# Altium footprint library TPS22917DBVR.PcbLib: 3 footprints
Each footprint in its own frame and in the unit in brackets; x right, y up, seen from the top. Pads: shape width x height; smd on the part's side, far side on the other; paste and mask are expansions set on the pad; w line width, h text height; cw(c..) or ccw(c..) is an arc to the next point about the centre after c.
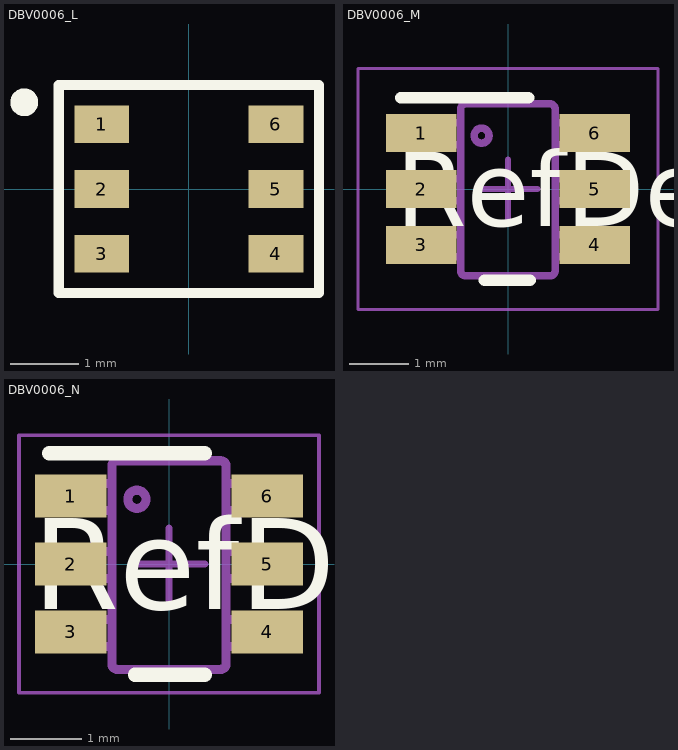
[diagram p0: the footprints below, top view; thin cyan lines are the x and y axes]

## DBV0006_L [mm]
pads (6):
  rect 0.8x0.55 smd paste+0 mask+0: 1(-1.275,0.95) 2(-1.275,0) 3(-1.275,-0.95) 4(1.275,-0.95) 5(1.275,0) 6(1.275,0.95)
Top Overlay:
  circle w0.254: c-2.413,1.27 r0.076
  lines w0.152: -1.905,-1.524 -1.905,1.524 1.905,1.524 1.905,-1.524 -1.905,-1.524
3D body "DBV0006A.stp": height 1.2, standoff 0, extent -1.4,-1.45 1.4,1.45

## DBV0006_M [mm]
pads (6):
  rect 1.2x0.65 smd paste+0 mask+0: 1(-1.475,0.95) 2(-1.475,0) 3(-1.475,-0.95) 4(1.475,-0.95) 5(1.475,0) 6(1.475,0.95)
Top Overlay:
  lines w0.2: -1.825,1.55 0.35,1.55 ; -0.4,-1.55 0.375,-1.55
  text "RefDes" at -1.905,-0.635 h1.27
Mechanical 13:
  lines w0.127: 0.723,-1.475 -0.724,-1.475 -0.725,-1.475 cw(c-0.724,-1.399) -0.801,-1.399 -0.801,1.37 cw(c-0.724,1.37) -0.725,1.446 -0.724,1.446 0.723,1.446 ; 0.723,-1.475 0.724,-1.475 ; 0.724,-1.475 ccw(c0.723,-1.399) 0.8,-1.399 0.8,1.37 ccw(c0.723,1.37) 0.724,1.446 ; 0.723,1.446 0.724,1.446 ; -1.423,-1.154 -1.423,-0.78 -1.206,-0.78 -1.113,-0.78 -1.081,-0.78 -0.828,-0.78 -0.801,-0.78 -0.801,-1.154 -0.828,-1.154 -1.081,-1.154 -1.113,-1.154 -1.206,-1.154 -1.423,-1.154 ; -1.423,-0.202 -1.423,0.173 -1.206,0.173 -1.113,0.173 -1.081,0.173 -0.828,0.173 -0.801,0.173 -0.801,-0.202 -0.828,-0.202 -1.081,-0.202 -1.113,-0.202 -1.206,-0.202 -1.423,-0.202 ; -1.423,0.751 -1.423,1.125 -1.206,1.125 -1.113,1.125 -1.081,1.125 -0.828,1.125 -0.801,1.125 -0.801,0.751 -0.828,0.751 -1.081,0.751 -1.113,0.751 -1.206,0.751 -1.423,0.751 ; -0.577,0.906 ccw(c-0.45,0.906) -0.323,0.906 ccw(c-0.45,0.906) -0.577,0.906 ; 0.8,-1.154 0.8,-0.78 0.827,-0.78 1.08,-0.78 1.112,-0.78 1.205,-0.78 1.422,-0.78 1.422,-1.154 1.205,-1.154 1.112,-1.154 1.08,-1.154 0.827,-1.154 0.8,-1.154 ; 0.8,-0.202 0.8,0.173 0.827,0.173 1.08,0.173 1.112,0.173 1.205,0.173 1.422,0.173 1.422,-0.202 1.205,-0.202 1.112,-0.202 1.08,-0.202 0.827,-0.202 0.8,-0.202 ; 0.8,0.751 0.8,1.125 0.827,1.125 1.08,1.125 1.112,1.125 1.205,1.125 1.422,1.125 1.422,0.751 1.205,0.751 1.112,0.751 1.08,0.751 0.827,0.751 0.8,0.751
Mechanical 15:
  lines w0.05: -2.55,-2.05 -2.55,2.05 2.55,2.05 2.55,-2.05 -2.55,-2.05
  lines w0.1: -0.5,0 0.5,0 ; 0,-0.5 0,0.5

## DBV0006_N [mm]
pads (6):
  rect 1x0.6 smd paste+0 mask+0: 1(-1.375,0.95) 2(-1.375,0) 3(-1.375,-0.95) 4(1.375,-0.95) 5(1.375,0) 6(1.375,0.95)
Top Overlay:
  lines w0.2: -1.675,1.55 0.5,1.55 ; -0.475,-1.55 0.5,-1.55
  text "RefDes" at -1.905,-0.635 h1.27
Mechanical 13:
  lines w0.127: 0.723,-1.475 0.724,-1.475 ; 0.723,-1.475 -0.724,-1.475 -0.725,-1.475 cw(c-0.724,-1.399) -0.801,-1.399 -0.801,1.37 cw(c-0.724,1.37) -0.725,1.446 -0.724,1.446 0.723,1.446 ; 0.724,-1.475 ccw(c0.723,-1.399) 0.8,-1.399 0.8,1.37 ccw(c0.723,1.37) 0.724,1.446 ; 0.723,1.446 0.724,1.446 ; -1.423,-1.154 -1.206,-1.154 -1.113,-1.154 -1.081,-1.154 -0.828,-1.154 -0.801,-1.154 -0.801,-0.78 -0.828,-0.78 -1.081,-0.78 -1.113,-0.78 -1.206,-0.78 -1.423,-0.78 -1.423,-1.154 ; -1.423,-0.202 -1.206,-0.202 -1.113,-0.202 -1.081,-0.202 -0.828,-0.202 -0.801,-0.202 -0.801,0.173 -0.828,0.173 -1.081,0.173 -1.113,0.173 -1.206,0.173 -1.423,0.173 -1.423,-0.202 ; -1.423,0.751 -1.206,0.751 -1.113,0.751 -1.081,0.751 -0.828,0.751 -0.801,0.751 -0.801,1.125 -0.828,1.125 -1.081,1.125 -1.113,1.125 -1.206,1.125 -1.423,1.125 -1.423,0.751 ; -0.577,0.906 cw(c-0.45,0.906) -0.323,0.906 cw(c-0.45,0.906) -0.577,0.906 ; 0.8,-1.154 0.827,-1.154 1.08,-1.154 1.112,-1.154 1.205,-1.154 1.422,-1.154 1.422,-0.78 1.205,-0.78 1.112,-0.78 1.08,-0.78 0.827,-0.78 0.8,-0.78 0.8,-1.154 ; 0.8,-0.202 0.827,-0.202 1.08,-0.202 1.112,-0.202 1.205,-0.202 1.422,-0.202 1.422,0.173 1.205,0.173 1.112,0.173 1.08,0.173 0.827,0.173 0.8,0.173 0.8,-0.202 ; 0.8,0.751 0.827,0.751 1.08,0.751 1.112,0.751 1.205,0.751 1.422,0.751 1.422,1.125 1.205,1.125 1.112,1.125 1.08,1.125 0.827,1.125 0.8,1.125 0.8,0.751
Mechanical 15:
  lines w0.05: -2.1,-1.8 2.1,-1.8 2.1,1.8 -2.1,1.8 -2.1,-1.8
  lines w0.1: -0.5,0 0.5,0 ; 0,-0.5 0,0.5